# EAGLE library part 760390012 (library Wurth Electronics Midcom Inc - EAGLE Lib V2-1)
Package Style: Toroid Mounting: SMD Pins: 6 pins Bobbin: 250-1109 Best pinouts for production vary per application. Please contact Wurth Electronics Midcom, Inc. for assistance with your custom design. Website: Wurth Electronics Midcom <http://www.we-online.com/midcom> Contact us Wurth Electronics Midcom, Inc. 121 Airport Dr. Watertown, SD 57201 Phone: (605) 886-4385 Fax: (605) 886-4486 E-Mail: midcom@we-online.com
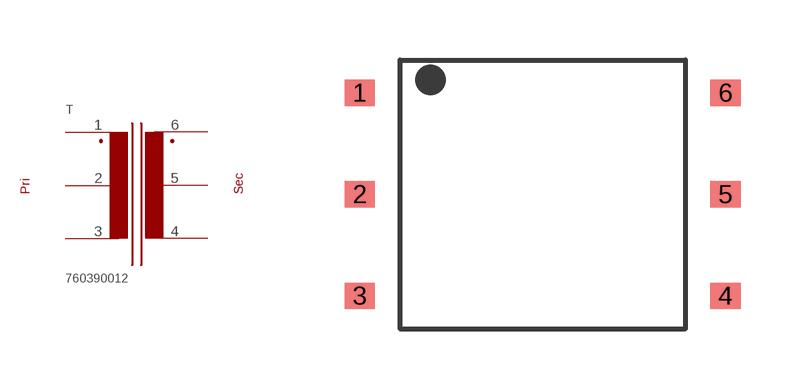
[diagram p242: symbol with the pads of TOROID_SMD_6PIN_(1109); footprint TOROID_SMD_6PIN_(1109)]

Designator prefix T

## 760390012  [TOROID_SMD_6PIN_(1109)]
1  1  pas
2  2  pas
3  3  pas
4  4  pas
5  5  pas
6  6  pas

## Footprint TOROID_SMD_6PIN_(1109) (pad centres in mm)
Package Style: Toroid Mounting: SMD Pins: 6 Bobbin: 250-1109
smd 0.762 x 0.66: 1 -4.572,2.54; 2 -4.572,0; 3 -4.572,-2.54; 4 4.572,-2.54; 5 4.572,0; 6 4.572,2.54